# EAGLE library part TDA5144 (library jasons_stuff)
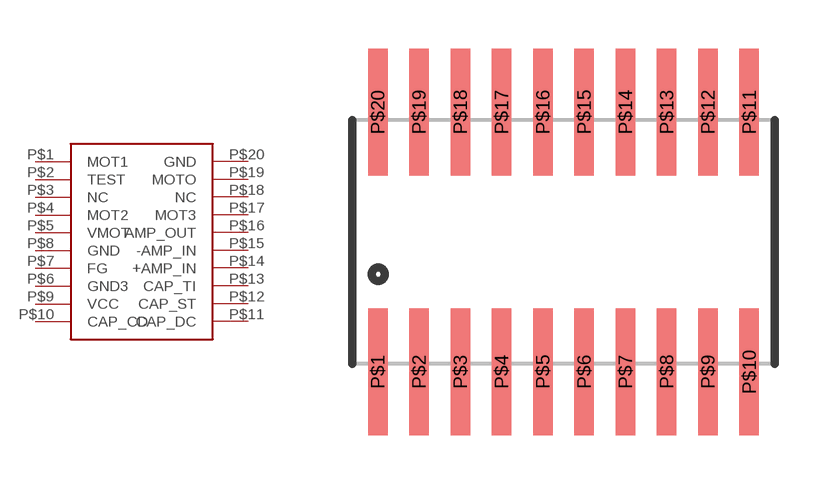
[diagram p19: symbol with the pads of SO20WN; footprint SO20WN]

Designator prefix -

## TDA5144  [SO20WN]
P$1  MOT1
P$2  TEST
P$3  NC
P$4  MOT2
P$5  VMOT
P$6  GND3
P$7  FG
P$8  GND
P$9  VCC
P$10  CAP_CD
P$11  CAP_DC
P$12  CAP_ST
P$13  CAP_TI
P$14  +AMP_IN
P$15  -AMP_IN
P$16  AMP_OUT
P$17  MOT3
P$18  NC
P$19  MOTO
P$20  GND

## Footprint SO20WN (pad centres in mm)
20 pin soic package that should fit both wide and narrow, UNPROOVEN
smd 0.6 x 3.9: P$1 -5.715,-4; P$2 -4.445,-4; P$3 -3.175,-4; P$4 -1.905,-4; P$5 -0.635,-4; P$6 0.635,-4; P$7 1.905,-4; P$8 3.175,-4; P$9 4.445,-4; P$10 5.715,-4; P$11 5.715,4; P$12 4.445,4; P$13 3.175,4; P$14 1.905,4; P$15 0.635,4; P$16 -0.635,4; P$17 -1.905,4; P$18 -3.175,4; P$19 -4.445,4; P$20 -5.715,4